# EAGLE library part ED_DPDT (library pighiXXX)
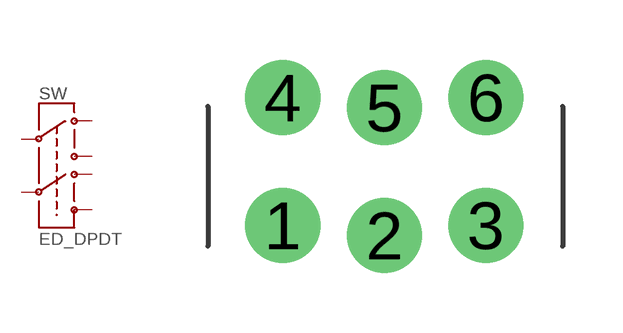
[diagram p4: symbol with the pads of ED_DPDT; footprint ED_DPDT]

Designator prefix SW

## ED_DPDT  [ED_DPDT]
1  1
2  2
3  3
4  4
5  5
6  6

## Footprint ED_DPDT (pad centres in mm)
drill 1.016 pad 1.88: 1 -2.54,-1.397; 2 0,-1.651; 3 2.54,-1.397; 4 -2.54,1.803; 5 0,1.549; 6 2.54,1.803